# Altium schematic symbol library 541-10148-1-ND.SchLib: 1 symbol
Pins are listed as number, name and electrical type; pins without a type are passive.

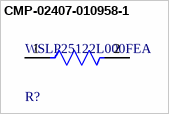
[diagram p0: symbol CMP-02407-010958-1]

## CMP-02407-010958-1
designator R?, comment WSLP25122L000FEA
RES 0.002 OHM 1% 3W 2512; Resistance: 2MR; Temperature Coefficient: 275ppm/°C; Size Code: 2512; Width: 3.2mm; Resistor Type: Metal Strip; Packaging: Tape and Reel; Weight: 0.001429oz; RoHS Compliant: Yes; Case Code (Metric): 6432; Case/Package: 2512; Tolerance: 1%; Length: 6.4mm; Case Code (Imperial): 2512; Power Rating: 3W; Min Operating Temperature: -65°C; Mount: Surface Mount; Max Operating Temperature: 170°C; Package Quantity: 2000; Series: WSLP; Height: 0.635mm; Termination: SMD/SMT; Lead Free: Lead Free
footprint FP-WSLP2512-0R001-0R0049-IPC_B
footprint FP-WSLP2512-0R001-0R0049-IPC_A
footprint FP-WSLP2512-0R001-0R0049-MFG
footprint FP-WSLP2512-0R001-0R0049-IPC_C
pins: 1, 2